# Altium schematic symbol library Boost Converter.SchLib: 10 symbols
Pins are listed as number, name and electrical type; pins without a type are passive.

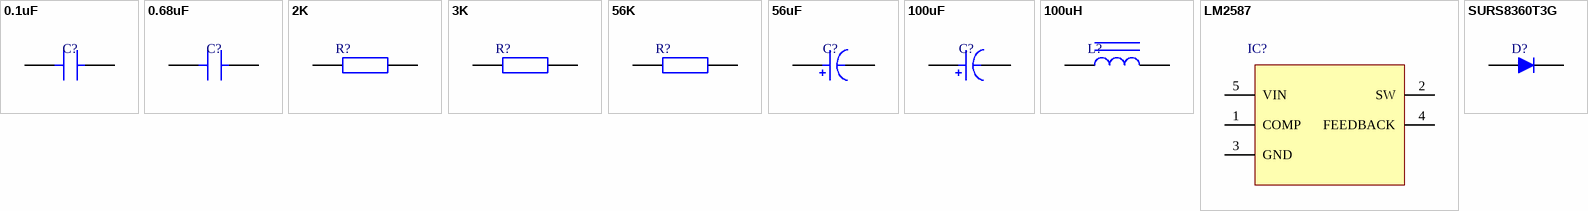
[diagram p0: symbols 0.1uF to SURS8360T3G]

## 0.1uF
designator C?
footprint CAP-0805
pins: 1, 2

## 0.68uF
designator C?
footprint CAP-0805
pins: 1, 2

## 2K
designator R?
footprint RES-0805
pins: 1, 2

## 3K
designator R?
footprint RES-0805
pins: 1, 2

## 56K
designator R?
footprint RES-0805
pins: 1, 2

## 56uF
designator C?
footprint UWD1V560MCL1GS
pins: 1, 2

## 100uF
designator C?
footprint EEE-FK1H101P
pins: 1, 2

## 100uH
designator L?
footprint 7447070
pins: 1, 2

## LM2587
designator IC?
footprint D2PAK
pins: 1 COMP, 2  SW, 3 GND, 4 FEEDBACK, 5 VIN

## SURS8360T3G
designator D?
footprint SURS8360
pins: 1, 2